# Altium schematic symbol library ASGTX-C-25.000MHz-1.SchLib: 1 symbol
Pins are listed as number, name and electrical type; pins without a type are passive.

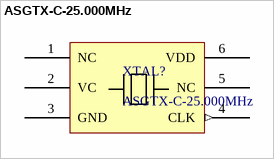
[diagram p0: symbol ASGTX-C-25.000MHz]

## ASGTX-C-25.000MHz
designator XTAL?
TCVCXO Oscillators 25.000MHz LVCMOS +/- 2 ppm; Supplier 1: Mouser; Supplier Part Number1: 815-ASGTX-C-25-1
pins: 1 NC, 2 VC, 3 GND, 4 CLK (out), 5 NC, 6 VDD